# Altium footprint library devBoard.PcbLib: 2 footprints
Each footprint in its own frame and in the unit in brackets; x right, y up, seen from the top. Pads: shape width x height; smd on the part's side, far side on the other; paste and mask are expansions set on the pad; w line width, h text height; cw(c..) or ccw(c..) is an arc to the next point about the centre after c.
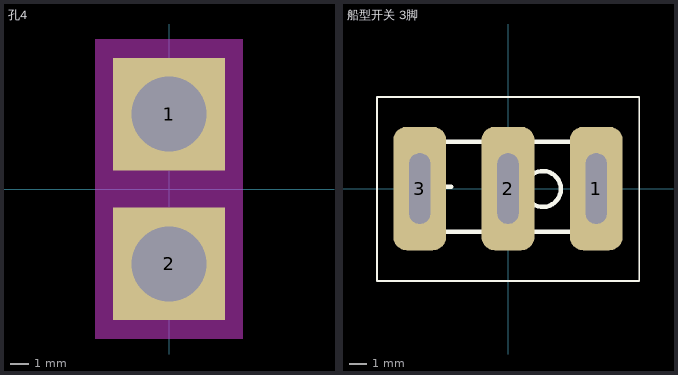
[diagram p0: the footprints below, top view; thin cyan lines are the x and y axes]

## 孔4 [mm]
pads (2):
  rect 6x6 hole 4 mask+0.102: 1(0,4)
  rect 6x6 hole 4: 2(0,-4)
Top Layer keep-out:
  rectangle: -3.937,-8.001 3.937,8.001

## 船型开关 3脚 [mm]
height 6.86
pads (3):
  rrect50% 3x7 hole 1.2 slot 4 at 90 deg: 1(5,0) 2(0,0) 3(-5,0)
Top Overlay:
  circle w0.254: c1.981,-0.025 r1.016
  lines w0.1: -7.417,-5.232 -7.417,5.182 7.442,5.182 7.442,-5.232 -7.417,-5.232
  lines w0.254: -5.258,0.102 -3.226,0.102 ; -6.274,-2.438 3.886,-2.438 3.886,2.642 -6.274,2.642 -6.274,-2.438
3D body "User Library-KCD11.STEP": height 14.51, standoff -4.5, extent -7.531,-5.25 7.528,5.25
3D body: height 11.1, standoff 11, extent -5.385,-0.025 -3.099,0.229